# Altium footprint library TCA9548A.PcbLib: 1 footprints
Each footprint in its own frame and in the unit in brackets; x right, y up, seen from the top. Pads: shape width x height; smd on the part's side, far side on the other; paste and mask are expansions set on the pad; w line width, h text height; cw(c..) or ccw(c..) is an arc to the next point about the centre after c.
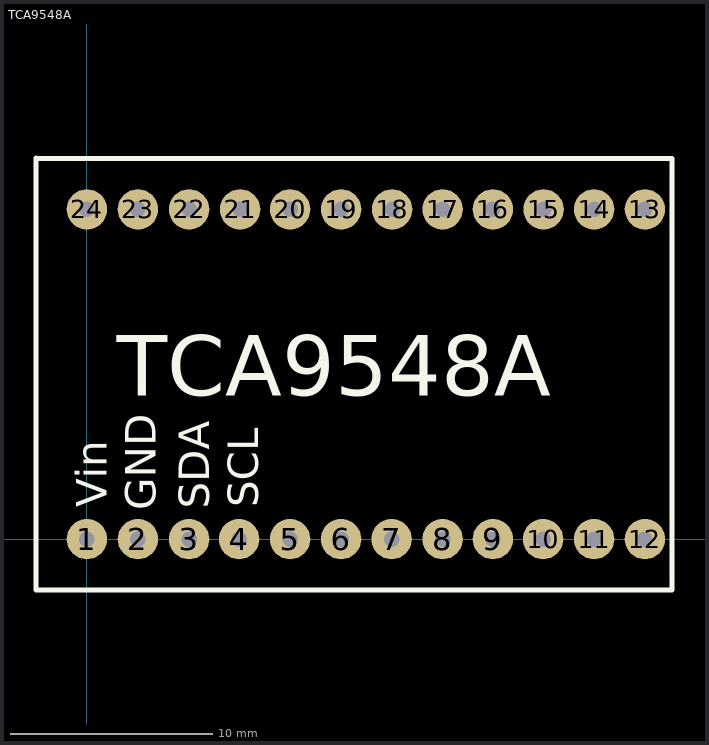
[diagram p0: the footprint, top view; thin cyan lines are the x and y axes]

## TCA9548A [mm] "TCA9548A"
pads (24):
  round 2 hole 0.762: 1(0,0) 2(2.525,0) 3(5.06,0) 4(7.535,0) 5(10.06,0) 6(12.585,0) 7(15.085,0) 8(17.61,0) 9(20.1,0) 10(22.585,0) 11(25.11,0) 12(27.627,0) 13(27.627,16.325) 14(25.11,16.325) 15(22.61,16.325) 16(20.1,16.325) 17(17.61,16.325) 18(15.11,16.325) 19(12.585,16.325) 20(10.06,16.325) 21(7.585,16.325) 22(5.06,16.325) 23(2.525,16.325) 24(0,16.325)
Top Overlay:
  lines w0.254: -2.529,18.85 28.952,18.85 28.976,18.826 28.976,-2.526 -2.529,-2.526 -2.529,18.874
  text "SCL" at 8.471,1.579 h1.52
  text "SDA" at 6.046,1.504 h1.52
  text "GND" at 3.421,1.429 h1.52
  text "Vin" at 0.971,1.579 h1.52
  text "TCA9548A" at 1.475,7.1 h3